# Altium integrated library SN74LVC8T245RHLR.IntLib: 1 symbol
Pins are listed as number, name and electrical type; pins without a type are passive.

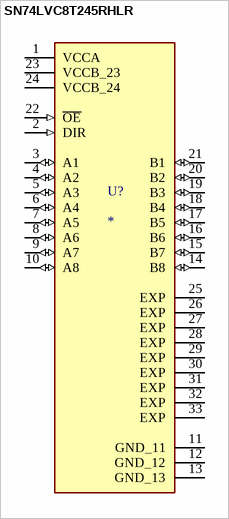
[diagram p0: symbol SN74LVC8T245RHLR]

## SN74LVC8T245RHLR
designator U?
8-Bit Dual-Supply Bus Transceiver with Configurable Voltage-Level Shifting and Three-State Outputs 24-VQFN -40 to 85; MF: Texas Instruments; MP: SN74LVC8T245RHLR; Purchase-URL: https://pricing.snapeda.com/search/part/SN74LVC8T245RHLR/?ref=eda; Price: None; SnapEDA_Link: https://www.snapeda.com/parts/SN74LVC8T245RHLR/Texas%20Instruments/view-part/95619/?ref=snap; Package: VQFN-24 Texas Instruments; Availability: Good; Value: *
footprint IC_SN74LVC8T245RHLR
pins: 1 VCCA (power), 2 DIR (in), 3 A1 (io), 4 A2 (io), 5 A3 (io), 6 A4 (io), 7 A5 (io), 8 A6 (io), 9 A7 (io), 10 A8 (io), 11 GND_11 (power), 12 GND_12 (power), 13 GND_13 (power), 14 B8 (io), 15 B7 (io), 16 B6 (io), 17 B5 (io), 18 B4 (io), 19 B3 (io), 20 B2 (io), 21 B1 (io), 22 ~{OE} (in), 23 VCCB_23 (power), 24 VCCB_24 (power), 25 EXP, 26 EXP, 27 EXP, 28 EXP, 29 EXP, 30 EXP, 31 EXP, 32 EXP, 33 EXP